# Altium schematic symbol library Custom1.SchLib: 476 symbols (part 16 of 16)
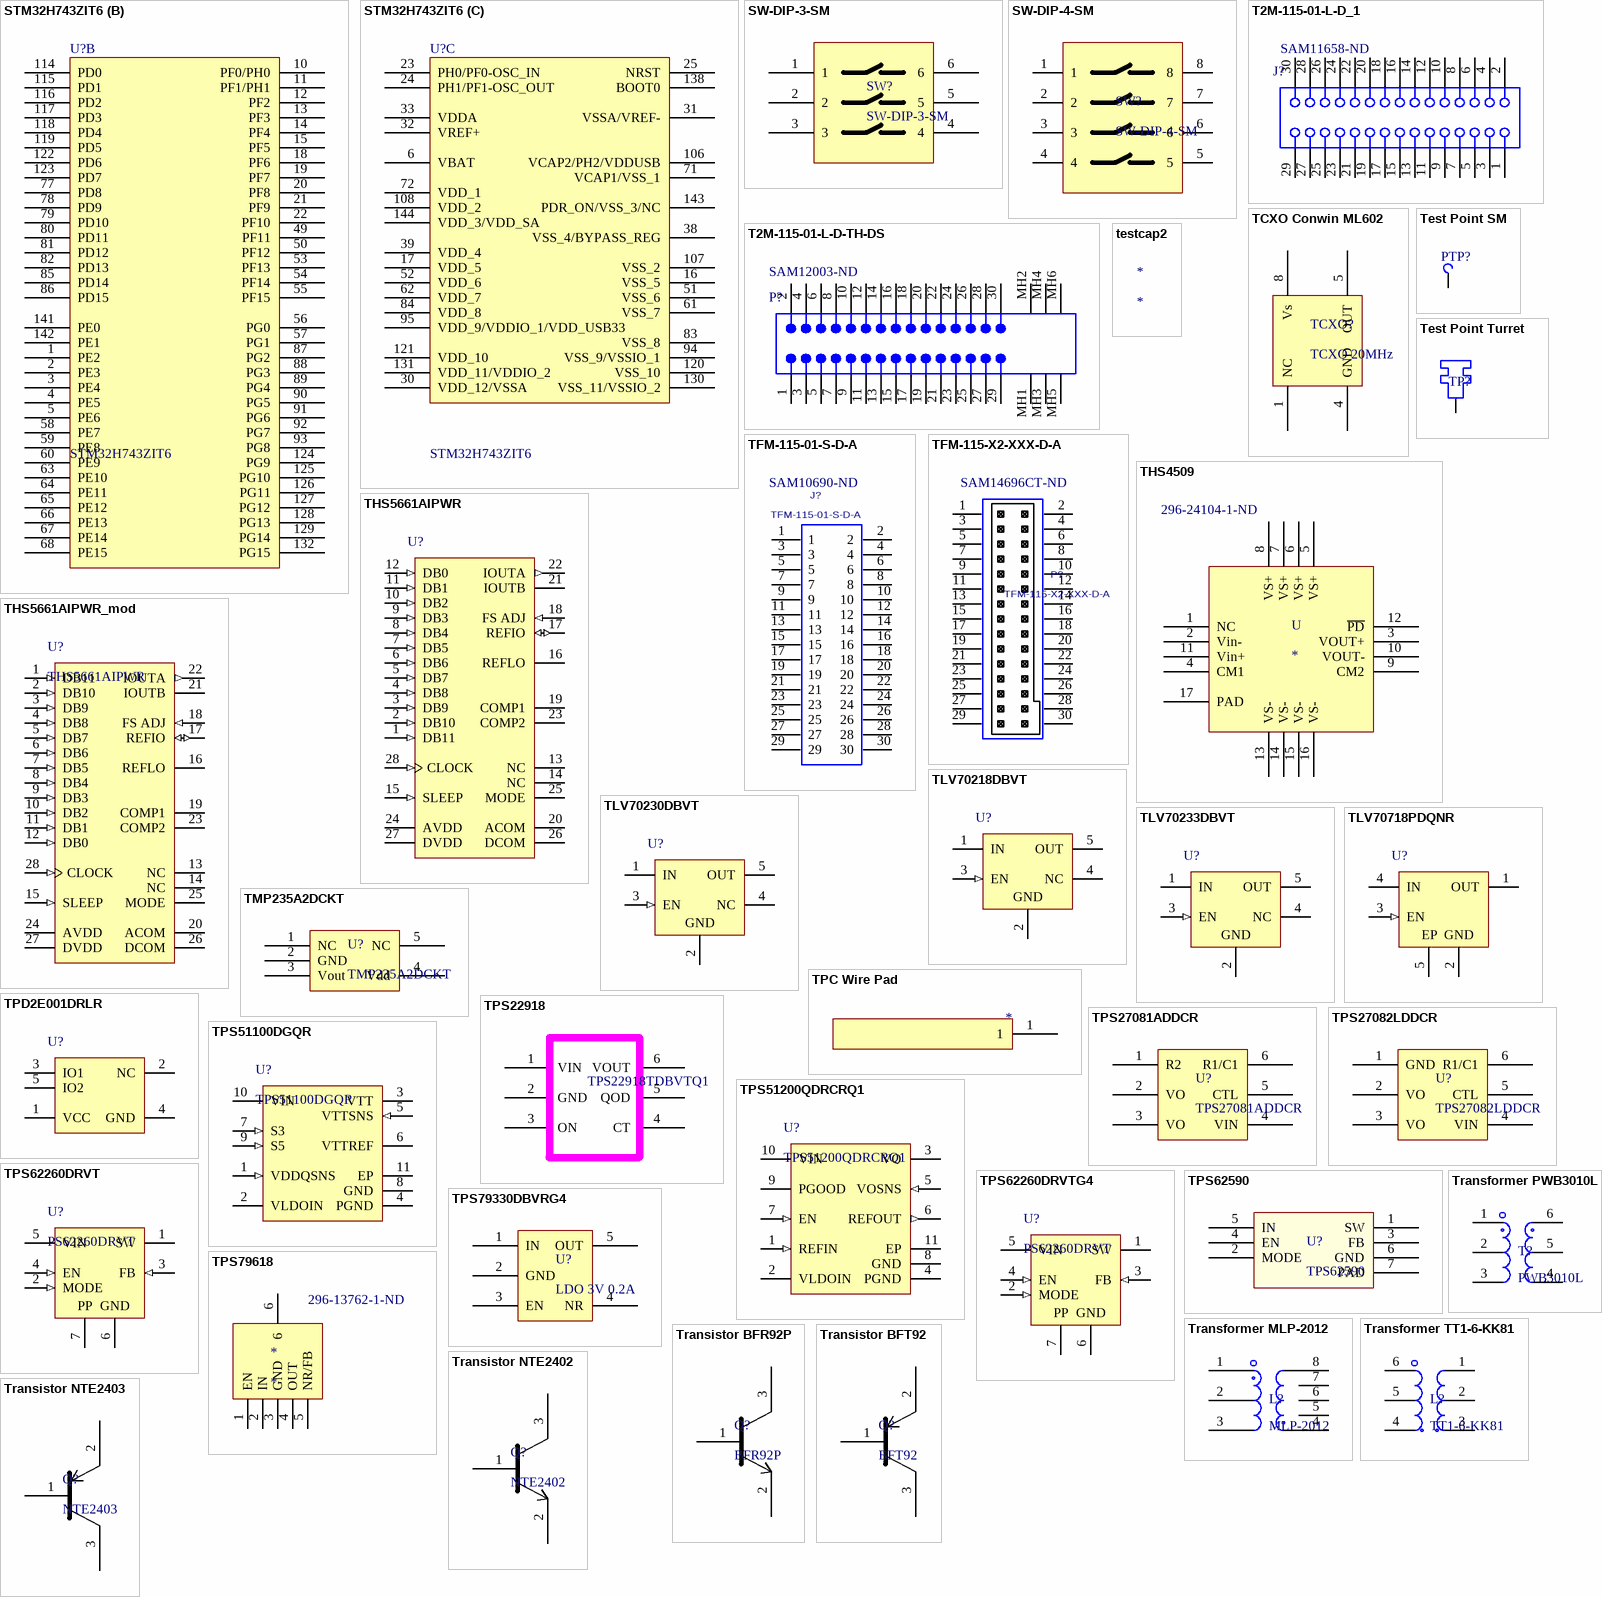
[diagram p40: symbols STM32H743ZIT6 to Transistor NTE2403]

## TPS51200QDRCRQ1
designator U?
Single Output Automotive LDO, 3 A, 2.3 to 3.5 V Input, with DDR Termination, 10-pin SON (DRC), -40 to 125 degC, Green (RoHS & no Sb/Br); Manufacturer: Texas Instruments; Voltage - Input: 2.38 V ~ 3.5 V; Number of Outputs: 1; Supplier 1: Digi-Key; Manufacturer Part Number: TPS51200QDRCRQ1; RoHS: RoHS Compliant; Category: Integrated Circuits (ICs); Stock 1: 2851; Pricing 1: 1=2.46, 10=2.211, 100=1.7739, 500=1.458, 1000=1.0125 (USD); Packaging: Cut Tape (CT); Applications: Converter, DDR; Voltage - Output: -; Operating Temperature: -40°C ~ 125°C; Mounting Type: Surface Mount; Package / Case: 10-VFDFN Exposed Pad; Supplier Device Package: 10-VSON (3x3); ComponentLink1URL: http://www.ti.com/lit/ds/symlink/tps51200-q1.pdf; ComponentLink1Description: http://www.ti.com/lit/ds/symlink/tps51200-q1.pdf; Supplier Part Number 1: 296-25411-1-ND
footprint TI-DRC10-2400X1650TP_V (SON, 10-Leads, Body 3x3mm, Pitch 0.5mm, Thermal Pad 3x1.65mm)
pins: 1 REFIN (in) "Reference input", 2 VLDOIN (power) "Supply voltage for the LDO", 3 VO (power) "Power output for the LDO", 4 PGND (power) "Power ground output for the LDO", 5 VOSNS (in) "Voltage sense output for the LDO. Connect to positive terminal of the output capacitor or the load.", 6 REFOUT (out) "Reference output. Connect to GND through 0.1-uF ceramic capacitor.", 7 EN (in) "For DDR VTT application, connect EN to SLP_S3. For any other application(s), use EN as the ON/OFF function.", 8 GND (power) "Ground.Signal ground. Connect to negative terminal of the output capacitor.", 9 PGOOD (hiz) "PGOOD output. Indicates regulation.", 10 VIN (power) "2.5-V or 3.3-V power supply A ceramic decoupling capacitor with a value between 1-uF and 4.7-uF is required.", 11 EP (power) "Exposed thermal pad"

## TPS62260DRVT
designator U?, comment PS62260DRVT
Buck Step Down Regulator with 2 to 6 V Input and 0.6 to 6 V Output, -40 to 85 degC, 6-Pin SON (DRV), Green (RoHS & no Sb/Br); Manufacturer: Texas Instruments; Manufacturer Part Number: TPS62260DRVT; Output Type: Adjustable; Number of Outputs: 1; Voltage - Output: 0.6 V ~ 6 V; Voltage - Input: 2 V ~ 6 V; Frequency - Switching: 2.25MHz; Current - Output: 600mA; Synchronous Rectifier: Yes; Supplier 1: Digi-Key; RoHS: RoHS Compliant; Category: Integrated Circuits (ICs); Stock 1: 2474; Pricing 1: 1=2.15, 10=1.938, 25=1.7364, 100=1.5614 (USD); Packaging: Cut Tape (CT); Type: Step-Down (Buck); Operating Temperature: -40°C ~ 85°C; Mounting Type: Surface Mount; Package / Case: 6-WDFN Exposed Pad; Supplier Device Package: 6-SON (2x2); ComponentLink1URL: http://www.ti.com/lit/ds/symlink/tps62263.pdf; ComponentLink1Description: http://www.ti.com/lit/ds/symlink/tps62263.pdf; Supplier Part Number 1: 296-22470-1-ND
footprint DRV6-1600X1000TP (SON, 6-Leads, Body 2x2mm, Pitch 0.65mm, Thermal Pad 1.6x1mm, TI Recommended)
pins: 1 SW (power) "This is the switch pin and is connected to the internal MOSFET switches. Connect the external inductor between this terminal and the output capacitor.", 2 MODE (in) "This pin is only available at QFN package option. MODE pin = high forces the device to operate in fixed frequency PWM mode. MODE pin = low enables the Power Save Mode with automatic transition from PFM mode to fixed (See Datasheet)", 3 FB (in) "Feedback Pin for the internal regulation loop. Connect the external resistor divider to this pin. In case of fixed output voltage option, connect this pin directly to the output capacitor", 4 EN (in) "This is the enable pin of the device. Pulling this pin to low forces the device into shutdown mode. Pulling this pin to high enables the device. This pin must be terminated.", 5 VIN (power) "VIN power supply pin.", 6 GND (power) "GND supply pin", 7 POWERPAD (power) "Exposed Thermal Pad"
text: PP

## TPS62260DRVTG4
designator U?, comment PS62260DRVT
Buck Step Down Regulator with 2 to 6 V Input and 0.6 to 6 V Output, -40 to 85 degC, 6-Pin SON (DRV), Green (RoHS & no Sb/Br); Manufacturer: Texas Instruments; Manufacturer Part Number: TPS62260DRVT; Output Type: Adjustable; Number of Outputs: 1; Voltage - Output: 0.6 V ~ 6 V; Voltage - Input: 2 V ~ 6 V; Frequency - Switching: 2.25MHz; Current - Output: 600mA; Synchronous Rectifier: Yes; Supplier 1: Digi-Key; RoHS: RoHS Compliant; Category: Integrated Circuits (ICs); Stock 1: 2474; Pricing 1: 1=2.15, 10=1.938, 25=1.7364, 100=1.5614 (USD); Packaging: Cut Tape (CT); Type: Step-Down (Buck); Operating Temperature: -40°C ~ 85°C; Mounting Type: Surface Mount; Package / Case: 6-WDFN Exposed Pad; Supplier Device Package: 6-SON (2x2); ComponentLink1URL: http://www.ti.com/lit/ds/symlink/tps62263.pdf; ComponentLink1Description: http://www.ti.com/lit/ds/symlink/tps62263.pdf; Supplier Part Number 1: 296-22470-1-ND
footprint DRV6-1600X1000TP (SON, 6-Leads, Body 2x2mm, Pitch 0.65mm, Thermal Pad 1.6x1mm, TI Recommended)
pins: 1 SW (power) "This is the switch pin and is connected to the internal MOSFET switches. Connect the external inductor between this terminal and the output capacitor.", 2 MODE (in) "This pin is only available at QFN package option. MODE pin = high forces the device to operate in fixed frequency PWM mode. MODE pin = low enables the Power Save Mode with automatic transition from PFM mode to fixed (See Datasheet)", 3 FB (in) "Feedback Pin for the internal regulation loop. Connect the external resistor divider to this pin. In case of fixed output voltage option, connect this pin directly to the output capacitor", 4 EN (in) "This is the enable pin of the device. Pulling this pin to low forces the device into shutdown mode. Pulling this pin to high enables the device. This pin must be terminated.", 5 VIN (power) "VIN power supply pin.", 6 GND (power) "GND supply pin", 7 POWERPAD (power) "Exposed Thermal Pad"
text: PP

## TPS62590
designator U?
IC Reg Buck 1A; Manufacturer: Texas Instruments; Manufacturer Part Number: TPS62590DRVT; Output Type: Adjustable; Number of Outputs: 1; Voltage - Output: 0.75 V ~ 5.5 V; Voltage - Input: 2.5 V ~ 5.5 V; PWM Type: Voltage Mode; Frequency - Switching: 2.25MHz; Synchronous Rectifier: Yes; Supplier 1: Digi-Key; Supplier Part Number 1: 296-24173-2-ND; Supplier 2: Digi-Key; Supplier Part Number 2: 296-24173-1-ND; RoHS: RoHS Compliant; Category: Integrated Circuits (ICs); Stock: 4970; Pricing: 1=2.61, 10=2.359, 25=2.1132, 100=1.9001 (USD); Packaging: Cut Tape (CT); Type: Step-Down (Buck); Current - Output: 1A; Operating Temperature: -40°C ~ 85°C; Mounting Type: Surface Mount; Package / Case: 6-WDFN Exposed Pad; Supplier Device Package: 6-SON (2x2); ComponentLink1URL: http://www.ti.com/lit/ds/symlink/tps62590.pdf; ComponentLink1Description: http://www.ti.com/lit/ds/symlink/tps62590.pdf
footprint DRV6-1600X1000TP (SON, 6-Leads, Body 2x2mm, Pitch 0.65mm, Thermal Pad 1.6x1mm, TI Recommended)
pins: 1 SW, 2 MODE, 3 FB, 4 EN, 5 IN, 6 GND, 7 PAD

## TPS79330DBVRG4
designator U?, comment LDO 3V 0.2A
EG LDO 3V 0.2A SOT23-5; Manufacturer: Texas Instruments; Manufacturer Part Number: TPS79330DBVR; Regulator Topology: Positive Fixed; Current - Output: 200mA; Voltage - Dropout (Typical): 0.112V @ 200mA; Number of Regulators: 1; Voltage - Input: Up to 5.5V; Current - Limit (Min): 285mA; Supplier 1: Digi-Key; RoHS: RoHS Compliant; Category: Integrated Circuits (ICs); Stock 1: 12816; Pricing 1: 1=0.74, 10=0.597, 100=0.445, 500=0.327, 1000=0.299 (USD); Packaging: Cut Tape (CT); Voltage - Output: 3V; Operating Temperature: -40°C ~ 150°C; Mounting Type: Surface Mount; Package / Case: SC-74A, SOT-753; Supplier Device Package: SOT-23-5; ComponentLink1URL: http://www.ti.com/lit/ds/symlink/tps79330.pdf; ComponentLink1Description: http://www.ti.com/lit/ds/symlink/tps79330.pdf; Supplier Part Number 1: 296-12159-1-ND
footprint SOT-23-5 (SOT23, 5-Leads, Body 2.9x1.6mm, Pitch 0.95mm, IPC Low Density)
pins: 1 IN, 2 GND, 3 EN, 4 NR, 5 OUT

## TPS79618
designator *  Supplier Part Number 1: 296-13762-1-ND
Manufacturer: Texas Instruments; Manufacturer Part Number: TPS79618DCQR; Regulator Topology: Positive Fixed; Voltage - Output: 1.8V; Current - Output: 1A; Number of Regulators: 1; Voltage - Input: 2.7 V ~ 5.5 V; Current - Limit (Min): 2.4A; Supplier 1: Digi-Key; RoHS: RoHS Compliant; Category: Integrated Circuits (ICs); Stock: 1360; Pricing: 1=3.13, 10=2.825, 25=2.5308, 100=2.2759, 250=2.02088, 500=1.7658, 750=1.59903, 1000=1.22625 (USD); Packaging: Cut Tape (CT); Voltage - Dropout (Typical): -; Operating Temperature: -40°C ~ 125°C; Mounting Type: Surface Mount; Package / Case: SOT-223-6; Supplier Device Package: SOT-223-6; ComponentLink1URL: http://www.ti.com/lit/ds/symlink/tps79601.pdf; ComponentLink1Description: http://www.ti.com/lit/ds/symlink/tps79601.pdf
footprint SOT223-6M-DCQ (SOT223, 6-Leads, Body 6.5x3.5mm, Pitch 1.27mm, Lead Span 7mm, IPC Low Density)
pins: 1 EN, 2 IN, 3 GND, 4 OUT, 5 NR/FB, 6

## Transformer MLP-2012
designator L?, comment MLP-2012
Transformer MLP-2012; Manufacturer: Mini-Circuits; Manufacturer Part Number: TT1-6-KK81; Frequency - Test: .004MHz-300MHz; Supplier 1: Digi-Key; Package URL: http://www.bttc-beta.com/Products/11/Index.aspx; Operating Temperature: -55°C ~ 85°C; Package / Case: Non Standard; Mounting Type: Surface Mount; ComponentLink1URL: http://www.bttc-beta.com/Products/11/Index.aspx
simulation model INDUCTOR (Inductor)
signal-integrity model Inductor
pins: 1, 2, 3, 4, 5, 6, 7, 8

## Transformer PWB3010L
designator T?, comment PWB3010L
Transformer PWB3010L; Manufacturer: Coilcraft; Manufacturer Part Number: PWB3010LB; Product Status: New at Mouser; Supplier 1: Mouser; RoHS: RoHS Compliant; Category: Transformers Audio & Signal; Stock 1: 129; Pricing 1: 1=4.31, 10=3.88, 50=3.45, 100=3.01, 200=2.72, 500=2.49, 1000=2.33 (AUD); Packaging: Bulk; Series: PWB; Brand: Coilcraft; RoHS - Mouser: Y; Minimum Order Quantity: 1; Reeling: False; ComponentLink1URL: http://www.mouser.com/ds/2/597/pwb-463529.pdf; ComponentLink1Description: http://www.mouser.com/ds/2/597/pwb-463529.pdf; Supplier Part Number 1: 994-PWB3010LB
simulation model INDUCTOR (Inductor)
signal-integrity model Inductor
footprint XFRMR CC PWB
pins: 1, 2, 3, 4, 5, 6

## Transformer TT1-6-KK81
designator L?, comment TT1-6-KK81
Transformer TT1-6-KK81; Manufacturer: Mini-Circuits; Frequency - Test: .004MHz-300MHz; Supplier 1: Digi-Key; Manufacturer Part Number: TT1-6-KK81; Package URL: http://www.minicircuits.com/case_styles/KK81.pdf; Operating Temperature: -20°C ~ 85°C; Package / Case: Non Standard; Mounting Type: Surface Mount; ComponentLink1URL: http://www.minicircuits.com/pdfs/TT1-6-KK81.pdf
simulation model INDUCTOR (Inductor)
signal-integrity model Inductor
pins: 1, 2, 3, 4, 5, 6

## Transistor BFR92P
designator Q?, comment BFR92P
RF Transistor NPN 15V 45mA 5GHz 280mW Surface Mount SOT-23-3; Manufacturer: Infineon; Collector Base Voltage (VCBO): 20V; Emitter Base Voltage (VEBO): 2.5V; hFE Min: 40; Test Frequency: 900MHz; Supplier 1: Digi-Key; Manufacturer Part Number: BFR92P; Stock 1: 1094; Pricing 1: 1=0.38000, 10=0.31000, 100=0.21130, 500=0.15844, 1000=0.11884 (USD); RoHS: Yes; Case/Package: SOT; Number of Pins: 3; Min Operating Temperature: -65°C; Max Operating Temperature: 150°C; Max Power Dissipation: 280mW; Collector Emitter Voltage (VCEO): 15V; Max Collector Current: 45mA; Polarity: NPN; Power Dissipation: 280mW; Collector Emitter Breakdown Voltage: 15V; Transition Frequency: 5GHz; Max Frequency: 5GHz; Termination: SMD/SMT; Length: 2.9mm; Height: 1mm; Width: 1.3mm; REACH SVHC: No SVHC; ComponentLink1URL: https://datasheet.ciiva.com/14180/jt611713-e-14180782.pdf?src-supplier=Distrelec; ComponentLink1Description: https://datasheet.ciiva.com/14180/jt611713-e-14180782.pdf?src-supplier=Distrelec; ComponentLink2URL: https://datasheet.ciiva.com/11206/infineon-bfr92p-ds-v01-01-en-11206171.pdf?src-supplier=Avnet; ComponentLink2Description: https://datasheet.ciiva.com/11206/infineon-bfr92p-ds-v01-01-en-11206171.pdf?src-supplier=Avnet; Supplier Part Number 1: BFR92PE6327HTSA1CT-ND
footprint SOT-23 (SOT23, 3-Leads, Body 2.9x1.3mm, Pitch 0.95mm, 0.7 x 0.9)
pins: 1, 2, 3

## Transistor BFT92
designator Q?, comment BFT92
TRANS PNP 25MA 15V 5GHZ SOT23; Manufacturer: NXP Semiconductors; Manufacturer Part Number: BFT92,215; Noise Figure (dB Typ @ f): 2.5dB @ 500MHz; Power - Max: 300mW; DC Current Gain (hFE) (Min) @ Ic, Vce: 20 @ 14mA, 10V; Supplier 1: Digi-Key; RoHS: RoHS Compliant; Category: Discrete Semiconductor Products; Stock 1: 27133; Pricing 1: 1=0.63, 10=0.542, 100=0.4046, 500=0.3178, 1000=0.245 (USD); Packaging: Cut Tape (CT); Transistor Type: PNP; Voltage - Collector Emitter Breakdown (Max): 15V; Frequency - Transition: 5GHz; Gain: -; Current - Collector (Ic) (Max): 25mA; Mounting Type: Surface Mount; Package / Case: TO-236-3, SC-59, SOT-23-3; Supplier Device Package: SOT-23 (TO-236AB); ComponentLink1URL: http://www.nxp.com/documents/data_sheet/BFT92_CNV.pdf; ComponentLink1Description: http://www.nxp.com/documents/data_sheet/BFT92_CNV.pdf; Supplier Part Number 1: 568-1655-1-ND
footprint SOT-23 (SOT23, 3-Leads, Body 2.9x1.3mm, Pitch 0.95mm, 0.7 x 0.9)
pins: 1, 2, 3

## Transistor NTE2402
designator Q?, comment NTE2402
TRANSISTOR NPN SILICON 20V IC=0.25A SOT-23 CASE LOW NOISE UHF/VHF AMP SMT; Manufacturer: NTE Electronics; Collector Emitter Voltage (VCEO): 15V; Max Collector Current: 25mA; Emitter Base Voltage (VEBO): 2V; Power Dissipation: 200mW; Supplier 1: Newark; Manufacturer Part Number: NTE2402; Stock 1: 1341; Pricing 1: 1 = 2.83000, 50 = 2.57000, 100 = 2.35000, 250 = 2.17000, 500 = 2.09000 (USD); RoHS: Yes; Mount: Surface Mount; Case/Package: SOT-23; Number of Pins: 3; Weight: 0.16lb; Min Operating Temperature: -65°C; Max Operating Temperature: 150°C; Collector Base Voltage (VCBO): 20V; Polarity: NPN; Collector Emitter Breakdown Voltage: 20V; Length: 6inch; Height: 0.5inch; Width: 3inch; ComponentLink1URL: https://datasheet.ciiva.com/1263/nte2402-1263720.pdf?src-supplier=Newark; ComponentLink1Description: https://datasheet.ciiva.com/1263/nte2402-1263720.pdf?src-supplier=Newark; Supplier Part Number 1: 29C4501
footprint SOT-23 (SOT23, 3-Leads, Body 2.9x1.3mm, Pitch 0.95mm, 0.7 x 0.9)
pins: 1, 2, 3

## Transistor NTE2403
designator Q?, comment NTE2403
TRANSISTOR PNP 20V IC=0.25A SOT-23 CASELOW NOISE UHF/VHF AMP SM COMP TO NTE2402; Manufacturer: NTE Electronics; Supplier 1: Newark; Stock 1: 4929; Pricing 1: 1 = 3.10000, 50 = 2.99000, 100 = 2.87000, 250 = 2.76000, 500 = 2.66000 (USD); RoHS: Yes; Case/Package: SOT-23; Weight: 0.16lb; Length: 6inch; Height: 0.5inch; Width: 3inch; ComponentLink1URL: http://www.alliedelec.com/m/d/b95b2e0448a6627a9599b76ec86f6783.pdf?src-supplier=Allied+Electronics; ComponentLink1Description: http://www.alliedelec.com/m/d/b95b2e0448a6627a9599b76ec86f6783.pdf?src-supplier=Allied+Electronics; Supplier Part Number 1: 31C3603; Manufacturer Part Number: NTE2403
footprint SOT-23 (SOT23, 3-Leads, Body 2.9x1.3mm, Pitch 0.95mm, 0.7 x 0.9)
pins: 1, 2, 3

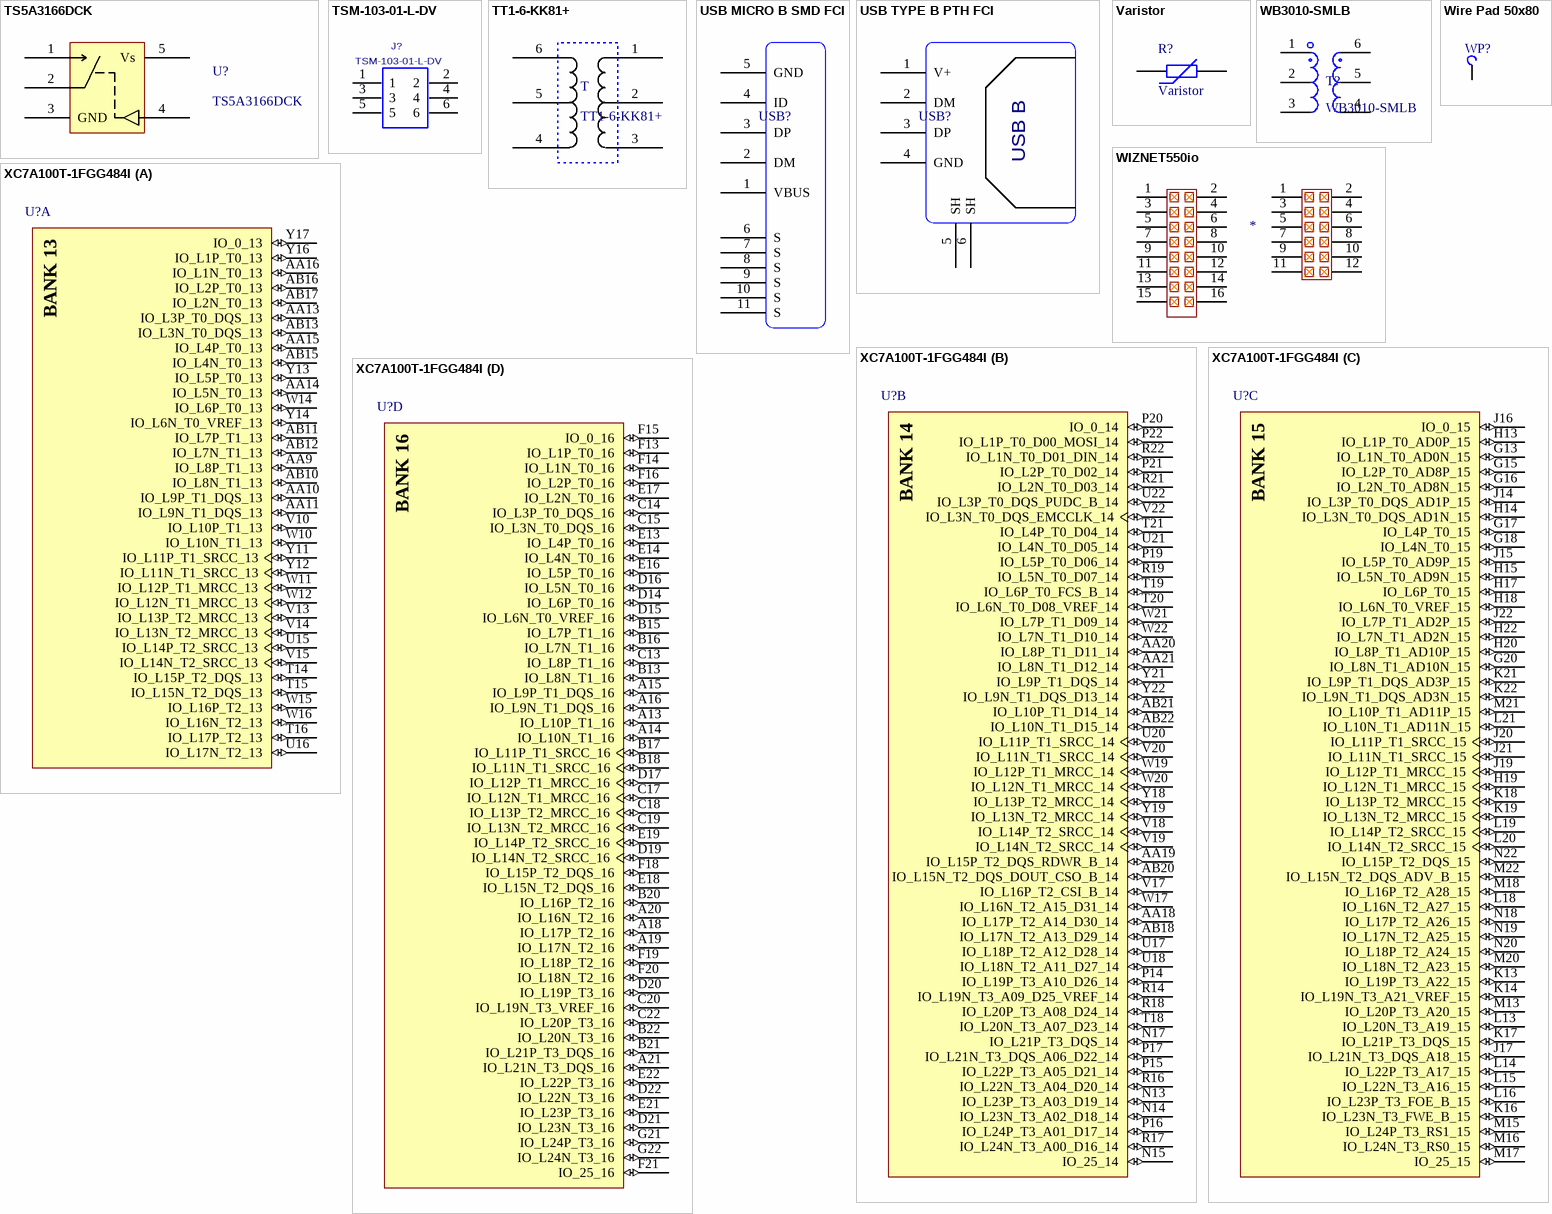
[diagram p24: symbols TS5A3166DCK to XC7A100T-1FGG484I]

## TS5A3166DCK
designator U?
Manufacturer: Texas Instruments; Manufacturer Part Number: TS5A3166DCKR; Function: Switch; Circuit: 1 x SPST - NO; On-State Resistance: 900 mOhm; Voltage Supply Source: Single Supply; Voltage - Supply, Single/Dual (±): 1.65 V ~ 5.5 V; Current - Supply: 10nA; Supplier 1: Digi-Key; RoHS: RoHS Compliant; Category: Integrated Circuits (ICs); Stock 1: 11704; Pricing 1: 1=0.59, 10=0.494, 25=0.4332, 100=0.3708, 250=0.3216, 500=0.2724, 750=0.2352, 1000=0.21 (USD); Packaging: Cut Tape (CT); Operating Temperature: -40°C ~ 85°C; Mounting Type: Surface Mount; Package / Case: 5-TSSOP, SC-70-5, SOT-353; Supplier Device Package: SC-70-5; ComponentLink1URL: http://www.ti.com/lit/ds/symlink/ts5a3166.pdf; ComponentLink1Description: http://www.ti.com/lit/ds/symlink/ts5a3166.pdf; Supplier Part Number 1: 296-17741-1-ND
footprint SC70-5 (SOT23, 5-Leads, Body 2.0x1.4mm, Pitch 0.65mm)
pins: 1, 2, 3 GND, 4, 5 Vs

## TSM-103-01-L-DV
designator J?
DOUBLE ROW SURFACE MOUNT HEADER; MANUFACTURER: SAMTEC; PCB DECAL: TSM-103-XX-XXX-DV; Number of Contacts: 6; Gender: Male; Connector Type: Male Pin; Max Current Rating: 7A; Max Voltage Rating (AC): 475V; Pitch: 2.54mm; Row Spacing: 0.1inch; CREATED: April 13, 2015 - Wendy Xin; Supplier 1: Digi-Key; Manufacturer Part Number: TSM-103-01-L-DV; Stock 1: 38; Pricing 1: 1=0.77, 10=0.726, 100=0.5566, 500=0.484, 1000=0.3993, 5000=0.3509, 10000=0.3267 (USD); Case/Package: SMD/SMT; Contact Plating: Nickel,Gold; Contact Material: Bronze; Housing Colour: Black; Housing Material: Polymer; Colour: Black; Min Operating Temperature: -55°C; Max Operating Temperature: 125°C; Packaging: Rail/Tube; Number of Rows: 2; Termination: Solder; Orientation: Straight; Number of Positions: 6; Package Quantity: 1; Current Rating: 7A; Voltage Rating: 475V; Length: 7.62mm; Depth: 7.36mm; Contact Mating Length: 0.23inch; Radiation Hardening: No; Lead Free: Lead Free; REACH SVHC: No SVHC; ComponentLink1URL: https://datasheet.ciiva.com/739/tsm-1xx-xx-xxx-xx-x-xxx-x-mkt-739577.pdf; ComponentLink1Description: https://datasheet.ciiva.com/739/tsm-1xx-xx-xxx-xx-x-xxx-x-mkt-739577.pdf; ComponentLink2URL: https://datasheet.ciiva.com/25616/0900766b81157e6c-25616863.pdf; ComponentLink2Description: https://datasheet.ciiva.com/25616/0900766b81157e6c-25616863.pdf; Supplier Part Number 1: SAM10786-ND
footprint TSM-103-XX-XXX-DV
footprint TSM-103-XX-XXX-DV
pins: 1, 2, 3, 4, 5, 6

## TT1-6-KK81+
designator T
Transformer Signal CT
footprint TRAFO6_SMD_2.54SP_6.86X7.62__V1
pins: 1, 2, 3, 4, 5, 6

## USB MICRO B SMD FCI
designator USB?, comment USB Micro B  (value not drawn)
CONN USB MICRO B RECPT SMT R/A; Manufacturer: FCI; Manufacturer Part Number: 10118192-0001LF; Connector Type: USB - micro B; Number of Contacts: 5; Gender: Receptacle; Specifications: USB 2.0; Supplier 1: Digi-Key; RoHS: RoHS Compliant; Category: Connectors, Interconnects; Stock 1: 77194; Pricing 1: 1=0.46, 10=0.433, 25=0.3712, 50=0.3156, 100=0.3032, 250=0.27224, 500=0.25988 (USD); Packaging: Cut Tape (CT); Mounting Type: Surface Mount, Right Angle, Horizontal; Features: Flange, Shielded; Ingress Protection: -; ComponentLink1URL: http://portal.fciconnect.com/Comergent//fci/drawing/10118192.pdf; ComponentLink1Description: http://portal.fciconnect.com/Comergent//fci/drawing/10118192.pdf; Supplier Part Number 1: 609-4613-1-ND
footprint USB MICRO SMD
pins: 1 VBUS, 2 DM, 3 DP, 4 ID, 5 GND, 6 S, 7 S, 8 S, 9 S, 10 S, 11 S

## USB TYPE B PTH FCI
designator USB?, comment USB Type B  (value not drawn)
USB RCPT B-TYPE R/A FULL BACK; Manufacturer: FCI; Manufacturer Part Number: 61729-1011BLF; Connector Type: USB - B; Number of Contacts: 4; Gender: Receptacle; Specifications: USB 2.0; Supplier 1: Digi-Key; RoHS: RoHS Compliant; Category: Connectors, Interconnects; Stock 1: 8038; Pricing 1: 1=0.92, 10=0.806, 50=0.7268, 100=0.6952, 250=0.632, 500=0.5688, 1000=0.5056, 2500=0.4582, 5000=0.4424 (USD); Packaging: Tube; Mounting Type: Through Hole, Right Angle, Horizontal; Features: Board Lock, Shielded; Ingress Protection: -; ComponentLink1URL: http://portal.fciconnect.com/Comergent//fci/drawing/61729.pdf; ComponentLink1Description: http://portal.fciconnect.com/Comergent//fci/drawing/61729.pdf; Supplier Part Number 1: 609-3657-ND
footprint USB TYPE B PTH FCI (Type B USB Receptacle)
pins: 1 V+, 2 DM, 3 DP, 4 GND, 5 SH, 6 SH
text: USB B

## Varistor
designator R?
Varistor (Voltage-Sensitive Resistor); PackageReference: 6-0805; PackageDescription: Chip Resistor 0805 Case Size
footprint 6-0805_N (Chip Resistor, Body 2.0x1.2mm, IPC Medium Density)
footprint 6-0805_L (Chip Resistor, Body 2.0x1.2mm, IPC High Density)
footprint 6-0805_M (Chip Resistor, Body 2.0x1.2mm, IPC Low Density)
footprint 5x8mm leadless
pins: 1, 2

## WB3010-SMLB
designator T?
Transformer WB3010-SMLB
simulation model INDUCTOR (Inductor)
signal-integrity model Inductor
footprint XFRMR CC PWB
pins: 1, 2, 3, 4, 5, 6

## Wire Pad 50x80
designator WP?, comment Wire Pad SMD  (value not drawn)
5019KCT-ND
footprint Wire Pad (50 x 80)
pins: 1

## WIZNET550io
designator *  (value not drawn)
pins: 1, 1, 2, 2, 3, 3, 4, 4, 5, 5, 6, 6, 7, 7, 8, 8, 9, 9, 10, 10, 11, 11, 12, 12, 13, 14, 15, 16

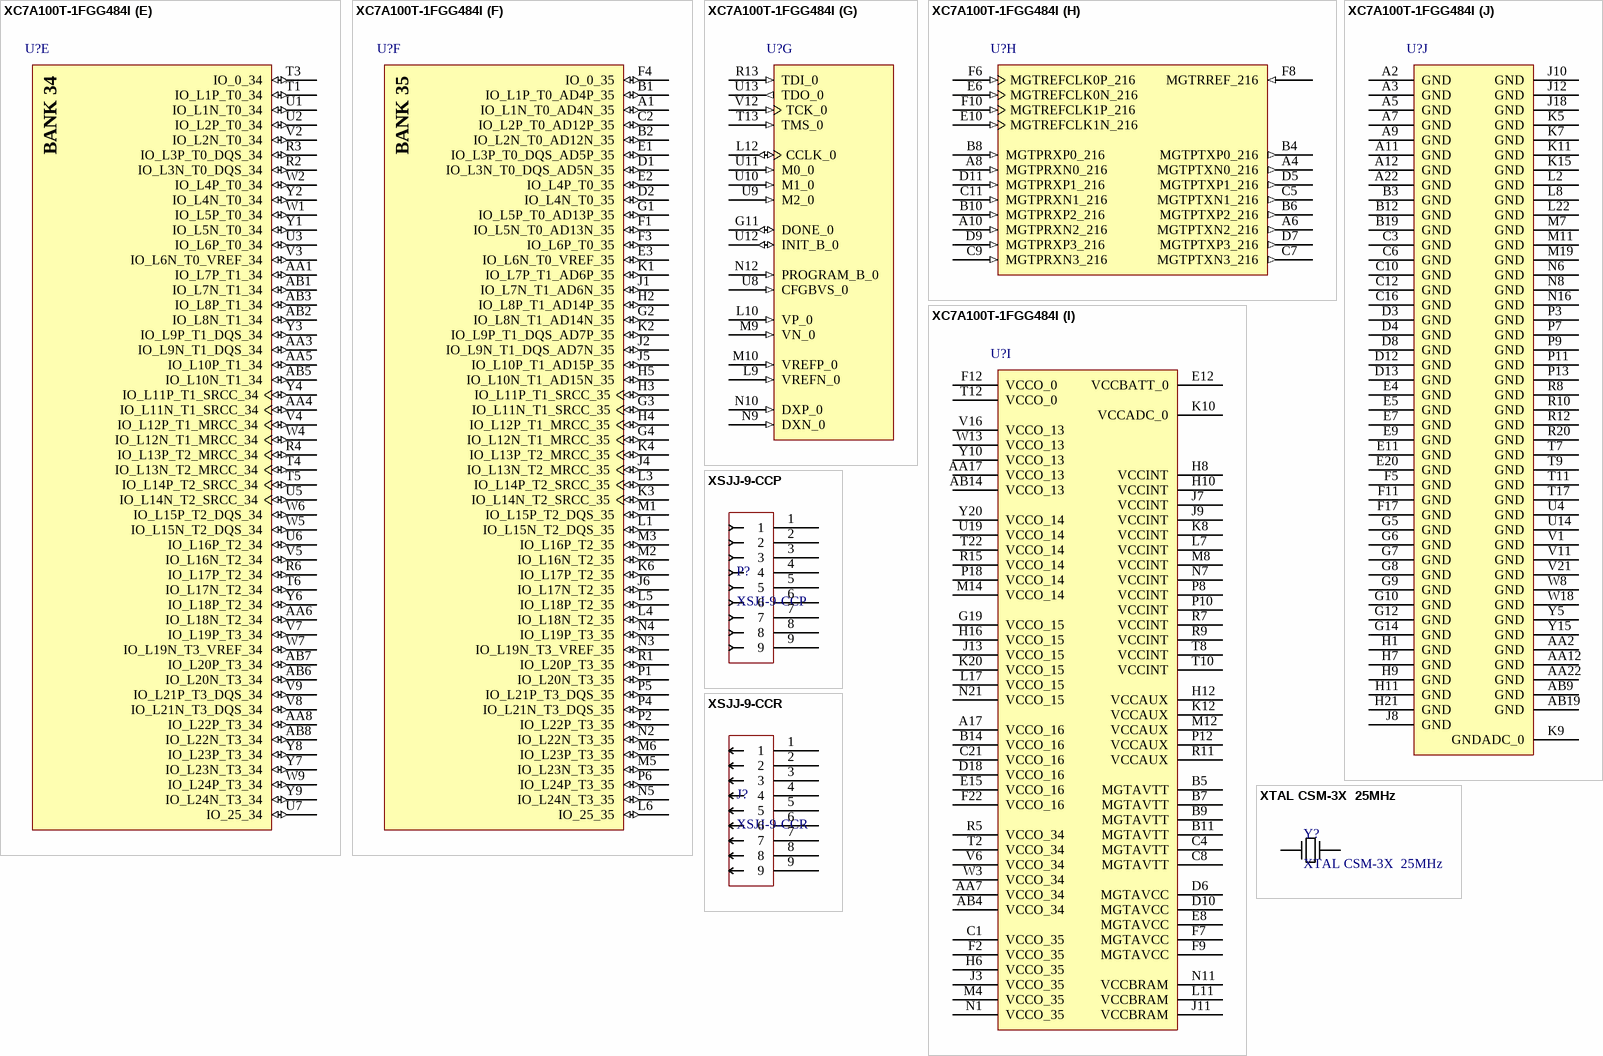
[diagram p25: symbols XC7A100T-1FGG484I to XTAL CSM-3X  25MHz]

## XC7A100T-1FGG484I
designator U?
Artix-7 FPGA, 285 User I/Os, 4 GTP, 484-Ball BGA, Speed Grade 1, Industrial Grade, Pb-Free; Generic Part Number: XC7A100T; Manufacturer: Xilinx; Block RAM Blocks (18Kb): 270; Block RAM Blocks (36Kb): 135; Block RAM Blocks (Max Kb): 4860; CLBs (Slices): 15850; Clock Mgmt Tiles (CMTs): 6; DSP48E1 Slices: 240; Logic Cells: 101440; Max User I/O: 300; Speed Grade: -1; NexusDeviceID: XC7A100T-1FGG484I; DatasheetVersion: v1.12; PackageVersion: Rev 1.8; PackageReference: FGG484; PackageDescription: Wire-Bond Fine-Pitch BGA, Body 23 x 23 mm, 1.0 mm Pitch; Supplier 1: Digi-Key; Supplier Part Number 1: 122-1884-ND; CLBs (Max Distributed RAM Kb): 1188; RoHS: Pb-Free; Mounting Technology: Surface Mount; Code_JEDEC: MS-034-AAJ-1; PartNumber: XC7A100T-1FGG484I; ComponentLink1Description: Manufacturer URL; ComponentLink1URL: http://www.xilinx.com/; ComponentLink2Description: Datasheet; ComponentLink2URL: http://www.xilinx.com/support/documentation/data_sheets/ds180_7Series_Overview.pdf; ComponentLink3Description: Package Specification; ComponentLink3URL: http://www.xilinx.com/support/documentation/user_guides/ug475_7Series_Pkg_Pinout.pdf; ComponentLink4Description: DC and Switching Characteristics; ComponentLink4URL: http://www.xilinx.com/support/documentation/data_sheets/ds181_Artix_7_Data_Sheet.pdf; ComponentLink5Description: Package File; ComponentLink5URL: http://www.xilinx.com/support/packagefiles/a7packages/xc7a100tfgg484pkg.txt; ComponentLink6Description: Packaging and Pinout; ComponentLink6URL: http://www.xilinx.com/support/documentation/user_guides/ug475_7Series_Pkg_Pinout.pdf
footprint FGG484 (BGA, 484-Balls, Body 23x23mm, Pitch 1mm)
part A pins: AA9 IO_L8P_T1_13 (io), AA10 IO_L9P_T1_DQS_13 (io), AA11 IO_L9N_T1_DQS_13 (io), AA13 IO_L3P_T0_DQS_13 (io), AA14 IO_L5N_T0_13 (io), AA15 IO_L4P_T0_13 (io), AA16 IO_L1N_T0_13 (io), AB10 IO_L8N_T1_13 (io), AB11 IO_L7P_T1_13 (io), AB12 IO_L7N_T1_13 (io), AB13 IO_L3N_T0_DQS_13 (io), AB15 IO_L4N_T0_13 (io), AB16 IO_L2P_T0_13 (io), AB17 IO_L2N_T0_13 (io), T14 IO_L15P_T2_DQS_13 (io), T15 IO_L15N_T2_DQS_13 (io), T16 IO_L17P_T2_13 (io), U15 IO_L14P_T2_SRCC_13 (io), U16 IO_L17N_T2_13 (io), V10 IO_L10P_T1_13 (io), V13 IO_L13P_T2_MRCC_13 (io), V14 IO_L13N_T2_MRCC_13 (io), V15 IO_L14N_T2_SRCC_13 (io), W10 IO_L10N_T1_13 (io), W11 IO_L12P_T1_MRCC_13 (io), W12 IO_L12N_T1_MRCC_13 (io), W14 IO_L6P_T0_13 (io), W15 IO_L16P_T2_13 (io), W16 IO_L16N_T2_13 (io), Y11 IO_L11P_T1_SRCC_13 (io), Y12 IO_L11N_T1_SRCC_13 (io), Y13 IO_L5P_T0_13 (io), Y14 IO_L6N_T0_VREF_13 (io), Y16 IO_L1P_T0_13 (io), Y17 IO_0_13 (io)
part B pins: AA18 IO_L17P_T2_A14_D30_14 (io), AA19 IO_L15P_T2_DQS_RDWR_B_14 (io), AA20 IO_L8P_T1_D11_14 (io), AA21 IO_L8N_T1_D12_14 (io), AB18 IO_L17N_T2_A13_D29_14 (io), AB20 IO_L15N_T2_DQS_DOUT_CSO_B_14 (io), AB21 IO_L10P_T1_D14_14 (io), AB22 IO_L10N_T1_D15_14 (io), N13 IO_L23P_T3_A03_D19_14 (io), N14 IO_L23N_T3_A02_D18_14 (io), N15 IO_25_14 (io), N17 IO_L21P_T3_DQS_14 (io), P14 IO_L19P_T3_A10_D26_14 (io), P15 IO_L22P_T3_A05_D21_14 (io), P16 IO_L24P_T3_A01_D17_14 (io), P17 IO_L21N_T3_DQS_A06_D22_14 (io), P19 IO_L5P_T0_D06_14 (io), P20 IO_0_14 (io), P21 IO_L2P_T0_D02_14 (io), P22 IO_L1P_T0_D00_MOSI_14 (io), R14 IO_L19N_T3_A09_D25_VREF_14 (io), R16 IO_L22N_T3_A04_D20_14 (io), R17 IO_L24N_T3_A00_D16_14 (io), R18 IO_L20P_T3_A08_D24_14 (io), R19 IO_L5N_T0_D07_14 (io), R21 IO_L2N_T0_D03_14 (io), R22 IO_L1N_T0_D01_DIN_14 (io), T18 IO_L20N_T3_A07_D23_14 (io), T19 IO_L6P_T0_FCS_B_14 (io), T20 IO_L6N_T0_D08_VREF_14 (io), T21 IO_L4P_T0_D04_14 (io), U17 IO_L18P_T2_A12_D28_14 (io), U18 IO_L18N_T2_A11_D27_14 (io), U20 IO_L11P_T1_SRCC_14 (io), U21 IO_L4N_T0_D05_14 (io), U22 IO_L3P_T0_DQS_PUDC_B_14 (io), V17 IO_L16P_T2_CSI_B_14 (io), V18 IO_L14P_T2_SRCC_14 (io), V19 IO_L14N_T2_SRCC_14 (io), V20 IO_L11N_T1_SRCC_14 (io), V22 IO_L3N_T0_DQS_EMCCLK_14 (io), W17 IO_L16N_T2_A15_D31_14 (io), W19 IO_L12P_T1_MRCC_14 (io), W20 IO_L12N_T1_MRCC_14 (io), W21 IO_L7P_T1_D09_14 (io), W22 IO_L7N_T1_D10_14 (io), Y18 IO_L13P_T2_MRCC_14 (io), Y19 IO_L13N_T2_MRCC_14 (io), Y21 IO_L9P_T1_DQS_14 (io), Y22 IO_L9N_T1_DQS_D13_14 (io)
part C pins: G13 IO_L1N_T0_AD0N_15 (io), G15 IO_L2P_T0_AD8P_15 (io), G16 IO_L2N_T0_AD8N_15 (io), G17 IO_L4P_T0_15 (io), G18 IO_L4N_T0_15 (io), G20 IO_L8N_T1_AD10N_15 (io), H13 IO_L1P_T0_AD0P_15 (io), H14 IO_L3N_T0_DQS_AD1N_15 (io), H15 IO_L5N_T0_AD9N_15 (io), H17 IO_L6P_T0_15 (io), H18 IO_L6N_T0_VREF_15 (io), H19 IO_L12N_T1_MRCC_15 (io), H20 IO_L8P_T1_AD10P_15 (io), H22 IO_L7N_T1_AD2N_15 (io), J14 IO_L3P_T0_DQS_AD1P_15 (io), J15 IO_L5P_T0_AD9P_15 (io), J16 IO_0_15 (io), J17 IO_L21N_T3_DQS_A18_15 (io), J19 IO_L12P_T1_MRCC_15 (io), J20 IO_L11P_T1_SRCC_15 (io), J21 IO_L11N_T1_SRCC_15 (io), J22 IO_L7P_T1_AD2P_15 (io), K13 IO_L19P_T3_A22_15 (io), K14 IO_L19N_T3_A21_VREF_15 (io), K16 IO_L23N_T3_FWE_B_15 (io), K17 IO_L21P_T3_DQS_15 (io), K18 IO_L13P_T2_MRCC_15 (io), K19 IO_L13N_T2_MRCC_15 (io), K21 IO_L9P_T1_DQS_AD3P_15 (io), K22 IO_L9N_T1_DQS_AD3N_15 (io), L13 IO_L20N_T3_A19_15 (io), L14 IO_L22P_T3_A17_15 (io), L15 IO_L22N_T3_A16_15 (io), L16 IO_L23P_T3_FOE_B_15 (io), L18 IO_L16N_T2_A27_15 (io), L19 IO_L14P_T2_SRCC_15 (io), L20 IO_L14N_T2_SRCC_15 (io), L21 IO_L10N_T1_AD11N_15 (io), M13 IO_L20P_T3_A20_15 (io), M15 IO_L24P_T3_RS1_15 (io), M16 IO_L24N_T3_RS0_15 (io), M17 IO_25_15 (io), M18 IO_L16P_T2_A28_15 (io), M20 IO_L18N_T2_A23_15 (io), M21 IO_L10P_T1_AD11P_15 (io), M22 IO_L15N_T2_DQS_ADV_B_15 (io), N18 IO_L17P_T2_A26_15 (io), N19 IO_L17N_T2_A25_15 (io), N20 IO_L18P_T2_A24_15 (io), N22 IO_L15P_T2_DQS_15 (io)
part D pins: A13 IO_L10P_T1_16 (io), A14 IO_L10N_T1_16 (io), A15 IO_L9P_T1_DQS_16 (io), A16 IO_L9N_T1_DQS_16 (io), A18 IO_L17P_T2_16 (io), A19 IO_L17N_T2_16 (io), A20 IO_L16N_T2_16 (io), A21 IO_L21N_T3_DQS_16 (io), B13 IO_L8N_T1_16 (io), B15 IO_L7P_T1_16 (io), B16 IO_L7N_T1_16 (io), B17 IO_L11P_T1_SRCC_16 (io), B18 IO_L11N_T1_SRCC_16 (io), B20 IO_L16P_T2_16 (io), B21 IO_L21P_T3_DQS_16 (io), B22 IO_L20N_T3_16 (io), C13 IO_L8P_T1_16 (io), C14 IO_L3P_T0_DQS_16 (io), C15 IO_L3N_T0_DQS_16 (io), C17 IO_L12N_T1_MRCC_16 (io), C18 IO_L13P_T2_MRCC_16 (io), C19 IO_L13N_T2_MRCC_16 (io), C20 IO_L19N_T3_VREF_16 (io), C22 IO_L20P_T3_16 (io), D14 IO_L6P_T0_16 (io), D15 IO_L6N_T0_VREF_16 (io), D16 IO_L5N_T0_16 (io), D17 IO_L12P_T1_MRCC_16 (io), D19 IO_L14N_T2_SRCC_16 (io), D20 IO_L19P_T3_16 (io), D21 IO_L23N_T3_16 (io), D22 IO_L22N_T3_16 (io), E13 IO_L4P_T0_16 (io), E14 IO_L4N_T0_16 (io), E16 IO_L5P_T0_16 (io), E17 IO_L2N_T0_16 (io), E18 IO_L15N_T2_DQS_16 (io), E19 IO_L14P_T2_SRCC_16 (io), E21 IO_L23P_T3_16 (io), E22 IO_L22P_T3_16 (io), F13 IO_L1P_T0_16 (io), F14 IO_L1N_T0_16 (io), F15 IO_0_16 (io), F16 IO_L2P_T0_16 (io), F18 IO_L15P_T2_DQS_16 (io), F19 IO_L18P_T2_16 (io), F20 IO_L18N_T2_16 (io), F21 IO_25_16 (io), G21 IO_L24P_T3_16 (io), G22 IO_L24N_T3_16 (io)
part E pins: AA1 IO_L7P_T1_34 (io), AA3 IO_L9N_T1_DQS_34 (io), AA4 IO_L11N_T1_SRCC_34 (io), AA5 IO_L10P_T1_34 (io), AA6 IO_L18N_T2_34 (io), AA8 IO_L22P_T3_34 (io), AB1 IO_L7N_T1_34 (io), AB2 IO_L8N_T1_34 (io), AB3 IO_L8P_T1_34 (io), AB5 IO_L10N_T1_34 (io), AB6 IO_L20N_T3_34 (io), AB7 IO_L20P_T3_34 (io), AB8 IO_L22N_T3_34 (io), R2 IO_L3N_T0_DQS_34 (io), R3 IO_L3P_T0_DQS_34 (io), R4 IO_L13P_T2_MRCC_34 (io), R6 IO_L17P_T2_34 (io), T1 IO_L1P_T0_34 (io), T3 IO_0_34 (io), T4 IO_L13N_T2_MRCC_34 (io), T5 IO_L14P_T2_SRCC_34 (io), T6 IO_L17N_T2_34 (io), U1 IO_L1N_T0_34 (io), U2 IO_L2P_T0_34 (io), U3 IO_L6P_T0_34 (io), U5 IO_L14N_T2_SRCC_34 (io), U6 IO_L16P_T2_34 (io), U7 IO_25_34 (io), V2 IO_L2N_T0_34 (io), V3 IO_L6N_T0_VREF_34 (io), V4 IO_L12P_T1_MRCC_34 (io), V5 IO_L16N_T2_34 (io), V7 IO_L19P_T3_34 (io), V8 IO_L21N_T3_DQS_34 (io), V9 IO_L21P_T3_DQS_34 (io), W1 IO_L5P_T0_34 (io), W2 IO_L4P_T0_34 (io), W4 IO_L12N_T1_MRCC_34 (io), W5 IO_L15N_T2_DQS_34 (io), W6 IO_L15P_T2_DQS_34 (io), W7 IO_L19N_T3_VREF_34 (io), W9 IO_L24P_T3_34 (io), Y1 IO_L5N_T0_34 (io), Y2 IO_L4N_T0_34 (io), Y3 IO_L9P_T1_DQS_34 (io), Y4 IO_L11P_T1_SRCC_34 (io), Y6 IO_L18P_T2_34 (io), Y7 IO_L23N_T3_34 (io), Y8 IO_L23P_T3_34 (io), Y9 IO_L24N_T3_34 (io)
part F pins: A1 IO_L1N_T0_AD4N_35 (io), B1 IO_L1P_T0_AD4P_35 (io), B2 IO_L2N_T0_AD12N_35 (io), C2 IO_L2P_T0_AD12P_35 (io), D1 IO_L3N_T0_DQS_AD5N_35 (io), D2 IO_L4N_T0_35 (io), E1 IO_L3P_T0_DQS_AD5P_35 (io), E2 IO_L4P_T0_35 (io), E3 IO_L6N_T0_VREF_35 (io), F1 IO_L5N_T0_AD13N_35 (io), F3 IO_L6P_T0_35 (io), F4 IO_0_35 (io), G1 IO_L5P_T0_AD13P_35 (io), G2 IO_L8N_T1_AD14N_35 (io), G3 IO_L11N_T1_SRCC_35 (io), G4 IO_L12N_T1_MRCC_35 (io), H2 IO_L8P_T1_AD14P_35 (io), H3 IO_L11P_T1_SRCC_35 (io), H4 IO_L12P_T1_MRCC_35 (io), H5 IO_L10N_T1_AD15N_35 (io), J1 IO_L7N_T1_AD6N_35 (io), J2 IO_L9N_T1_DQS_AD7N_35 (io), J4 IO_L13N_T2_MRCC_35 (io), J5 IO_L10P_T1_AD15P_35 (io), J6 IO_L17N_T2_35 (io), K1 IO_L7P_T1_AD6P_35 (io), K2 IO_L9P_T1_DQS_AD7P_35 (io), K3 IO_L14N_T2_SRCC_35 (io), K4 IO_L13P_T2_MRCC_35 (io), K6 IO_L17P_T2_35 (io), L1 IO_L15N_T2_DQS_35 (io), L3 IO_L14P_T2_SRCC_35 (io), L4 IO_L18N_T2_35 (io), L5 IO_L18P_T2_35 (io), L6 IO_25_35 (io), M1 IO_L15P_T2_DQS_35 (io), M2 IO_L16N_T2_35 (io), M3 IO_L16P_T2_35 (io), M5 IO_L23N_T3_35 (io), M6 IO_L23P_T3_35 (io), N2 IO_L22N_T3_35 (io), N3 IO_L19N_T3_VREF_35 (io), N4 IO_L19P_T3_35 (io), N5 IO_L24N_T3_35 (io), P1 IO_L20N_T3_35 (io), P2 IO_L22P_T3_35 (io), P4 IO_L21N_T3_DQS_35 (io), P5 IO_L21P_T3_DQS_35 (io), P6 IO_L24P_T3_35 (io), R1 IO_L20P_T3_35 (io)
part G pins: G11 DONE_0 (io), L9 VREFN_0 (in), L10 VP_0 (in), L12 CCLK_0 (io), M9 VN_0 (in), M10 VREFP_0 (in), N9 DXN_0 (in), N10 DXP_0 (in), N12 PROGRAM_B_0 (in), R13 TDI_0 (in), T13 TMS_0 (in), U8 CFGBVS_0 (in), U9 M2_0 (in), U10 M1_0 (in), U11 M0_0 (in), U12 INIT_B_0 (io), U13 TDO_0 (out), V12 TCK_0 (in)
part H pins: A4 MGTPTXN0_216 (out), A6 MGTPTXN2_216 (out), A8 MGTPRXN0_216 (in), A10 MGTPRXN2_216 (in), B4 MGTPTXP0_216 (out), B6 MGTPTXP2_216 (out), B8 MGTPRXP0_216 (in), B10 MGTPRXP2_216 (in), C5 MGTPTXN1_216 (out), C7 MGTPTXN3_216 (out), C9 MGTPRXN3_216 (in), C11 MGTPRXN1_216 (in), D5 MGTPTXP1_216 (out), D7 MGTPTXP3_216 (out), D9 MGTPRXP3_216 (in), D11 MGTPRXP1_216 (in), E6 MGTREFCLK0N_216 (in), E10 MGTREFCLK1N_216 (in), F6 MGTREFCLK0P_216 (in), F8 MGTRREF_216 (in), F10 MGTREFCLK1P_216 (in)
part I pins: A17 VCCO_16 (power), AA7 VCCO_34 (power), AA17 VCCO_13 (power), AB4 VCCO_34 (power), AB14 VCCO_13 (power), B5 MGTAVTT (power), B7 MGTAVTT (power), B9 MGTAVTT (power), B11 MGTAVTT (power), B14 VCCO_16 (power), C1 VCCO_35 (power), C4 MGTAVTT (power), C8 MGTAVTT (power), C21 VCCO_16 (power), D6 MGTAVCC (power), D10 MGTAVCC (power), D18 VCCO_16 (power), E8 MGTAVCC (power), E12 VCCBATT_0 (power), E15 VCCO_16 (power), F2 VCCO_35 (power), F7 MGTAVCC (power), F9 MGTAVCC (power), F12 VCCO_0 (power), F22 VCCO_16 (power), G19 VCCO_15 (power), H6 VCCO_35 (power), H8 VCCINT (power), H10 VCCINT (power), H12 VCCAUX (power), H16 VCCO_15 (power), J3 VCCO_35 (power), J7 VCCINT (power), J9 VCCINT (power), J11 VCCBRAM (power), J13 VCCO_15 (power), K8 VCCINT (power), K10 VCCADC_0 (power), K12 VCCAUX (power), K20 VCCO_15 (power), L7 VCCINT (power), L11 VCCBRAM (power), L17 VCCO_15 (power), M4 VCCO_35 (power), M8 VCCINT (power), M12 VCCAUX (power), M14 VCCO_14 (power), N1 VCCO_35 (power), N7 VCCINT (power), N11 VCCBRAM (power), N21 VCCO_15 (power), P8 VCCINT (power), P10 VCCINT (power), P12 VCCAUX (power), P18 VCCO_14 (power), R5 VCCO_34 (power), R7 VCCINT (power), R9 VCCINT (power), R11 VCCAUX (power), R15 VCCO_14 (power), T2 VCCO_34 (power), T8 VCCINT (power), T10 VCCINT (power), T12 VCCO_0 (power), T22 VCCO_14 (power), U19 VCCO_14 (power), V6 VCCO_34 (power), V16 VCCO_13 (power), W3 VCCO_34 (power), W13 VCCO_13 (power), Y10 VCCO_13 (power), Y20 VCCO_14 (power)
part J pins: A2 GND (power), A3 GND (power), A5 GND (power), A7 GND (power), A9 GND (power), A11 GND (power), A12 GND (power), A22 GND (power), AA2 GND (power), AA12 GND (power), AA22 GND (power), AB9 GND (power), AB19 GND (power), B3 GND (power), B12 GND (power), B19 GND (power), C3 GND (power), C6 GND (power), C10 GND (power), C12 GND (power), C16 GND (power), D3 GND (power), D4 GND (power), D8 GND (power), D12 GND (power), D13 GND (power), E4 GND (power), E5 GND (power), E7 GND (power), E9 GND (power), E11 GND (power), E20 GND (power), F5 GND (power), F11 GND (power), F17 GND (power), G5 GND (power), G6 GND (power), G7 GND (power), G8 GND (power), G9 GND (power), G10 GND (power), G12 GND (power), G14 GND (power), H1 GND (power), H7 GND (power), H9 GND (power), H11 GND (power), H21 GND (power), J8 GND (power), J10 GND (power), J12 GND (power), J18 GND (power), K5 GND (power), K7 GND (power), K9 GNDADC_0 (power), K11 GND (power), K15 GND (power), L2 GND (power), L8 GND (power), L22 GND (power), M7 GND (power), M11 GND (power), M19 GND (power), N6 GND (power), N8 GND (power), N16 GND (power), P3 GND (power), P7 GND (power), P9 GND (power), P11 GND (power), P13 GND (power), R8 GND (power), R10 GND (power), R12 GND (power), R20 GND (power), T7 GND (power), T9 GND (power), T11 GND (power), T17 GND (power), U4 GND (power), U14 GND (power), V1 GND (power), V11 GND (power), V21 GND (power), W8 GND (power), W18 GND (power), Y5 GND (power), Y15 GND (power)
part A text: BANK 13
part B text: BANK 14
part C text: BANK 15
part D text: BANK 16
part E text: BANK 34
part F text: BANK 35

## XSJJ-9-CCP
designator P?
Seacon XSJJ-9-CCP Molded Female Plug
pins: 1, 2, 3, 4, 5, 6, 7, 8, 9

## XSJJ-9-CCR
designator J?
Seacon XSJJ-9-CCR Male Molded Receptacle
pins: 1, 2, 3, 4, 5, 6, 7, 8, 9

## XTAL CSM-3X  25MHz
designator Y?
CRYSTAL 25.0000MHZ 20PF SMD; Manufacturer: ECS International; Manufacturer Part Number: ECS-250-20-3X-EN-TR; Frequency Tolerance: 30ppm; ESR (Equivalent Series Resistance): 50R; Frequency Stability: 50ppm; Supplier 1: Digi-Key; Stock 1: 20854; Pricing 1: 1 = 0.46000, 10 = 0.38500, 50 = 0.34660, 100 = 0.30800, 500 = 0.29260, 1000 = 0.24640 (USD); RoHS: Yes; Mount: Surface Mount; Min Operating Temperature: -40°C; Max Operating Temperature: 85°C; Package Quantity: 1; Frequency: 25MHz; Load Capacitance: 20pF; Packaging: Tape and Reel; Tolerance: 30ppm; Termination: SMD/SMT; Length: 0.276inch; Height: 0.091inch; Width: 0.161inch; Lead Free: Lead Free; ComponentLink3URL: https://datasheet.ciiva.com/852/csm-3x-852538.pdf?src-supplier=Digi-Key; ComponentLink3Description: https://datasheet.ciiva.com/852/csm-3x-852538.pdf?src-supplier=Digi-Key; Supplier Part Number 1: XC1798CT-ND; ComponentLink4Description: Data sheet; ComponentLink4URL: http://www.ecsxtal.com/store/pdf/CSM-3X.pdf
footprint XTAL CSM-3X
pins: 1 Y1, 2 Y2